# EAGLE library part W25Q32JVZPIQ (library W25Q32JVZPIQ)
Serial Flash Memory With Dual, Quad Spi Check availability <https://pricing.snapeda.com/parts/W25Q32JVZPIQ/Winbond/view-part?ref=eda>
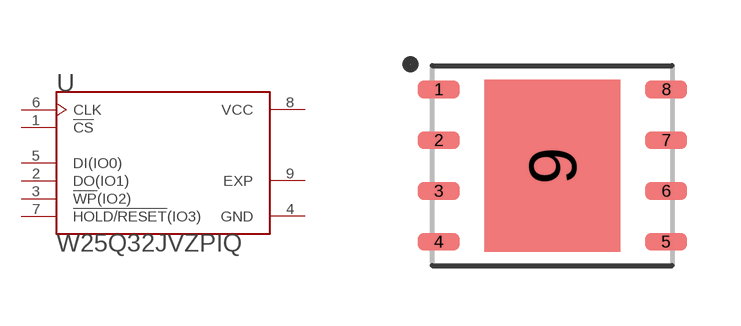
[diagram p0: symbol with the pads of SON127P600X500X80-9N; footprint SON127P600X500X80-9N]

Designator prefix U

## W25Q32JVZPIQ (Availability: In Stock; Description: FLASH - NOR Memory IC 32Mb (4M x 8) SPI - Quad I/O 133 MHz 8-WSON (6x5); MF: Winbond; MP: W25Q32JVZPIQ; Package: WSON-8 Winbond; Price: None; Purchase-URL: https://pricing.snapeda.com/search/part/W25Q32JVZPIQ/?ref=eda)  [SON127P600X500X80-9N]
1  !CS  in
2  DO(IO1)
3  !WP!(IO2)
4  GND  pwr
5  DI(IO0)
6  CLK  in
7  !HOLD/RESET!(IO3)
8  VCC  pwr
9  EXP  pas

## Footprint SON127P600X500X80-9N (pad centres in mm)
smd 1.04 x 0.44: 1 -2.845,1.905; 2 -2.845,0.635; 3 -2.845,-0.635; 4 -2.845,-1.905; 5 2.845,-1.905; 6 2.845,-0.635; 7 2.845,0.635; 8 2.845,1.905
smd 3.4 x 4.3: 9 0,0